# EAGLE library part RX12* (library 00_relay)
SMALL MICRO WAVE RELAY NAiS Source: http://www.mew-europe.com/.. en_ds_61307_0000.pdf
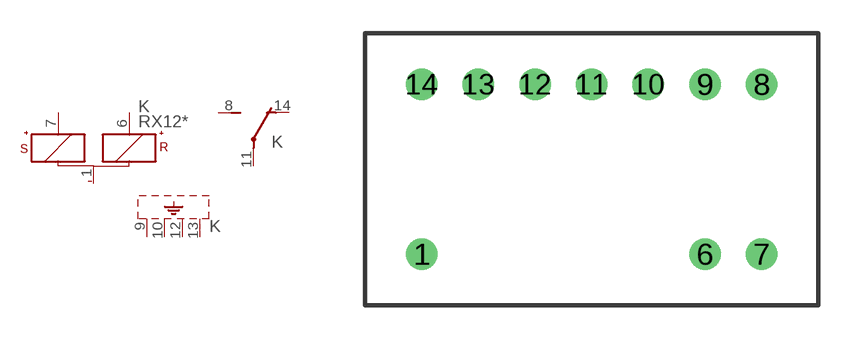
[diagram p97: symbol with the pads of RX2; footprint RX2]

Designator prefix K; gates 1=+KS+KR- 2=U 3=SHIELD-4

## RX12 (OC_FARNELL: unknown; OC_NEWARK: unknown)  [RX2]
1  1:-  pas
6  1:R+  pas
7  1:S+  pas
8  2:S  pas
9  3:SH  pas
10  3:SH  pas
11  2:P  pas
12  3:SH  pas
13  3:SH  pas
14  2:O  pas

## Footprint RX2 (pad centres in mm)
SMALL MICRO WAVE RELAY NAiS Source: http://www.mew-europe.com/.. en_ds_61307_0000.pdf
drill 0.9: 1 -7.62,-3.81; 6 5.08,-3.81; 7 7.62,-3.81; 8 7.62,3.81; 9 5.08,3.81; 10 2.54,3.81; 11 0,3.81; 12 -2.54,3.81; 13 -5.08,3.81; 14 -7.62,3.81